# Altium footprint library WS2812B.PcbLib: 1 footprints
Each footprint in its own frame and in the unit in brackets; x right, y up, seen from the top. Pads: shape width x height; smd on the part's side, far side on the other; paste and mask are expansions set on the pad; w line width, h text height; cw(c..) or ccw(c..) is an arc to the next point about the centre after c.
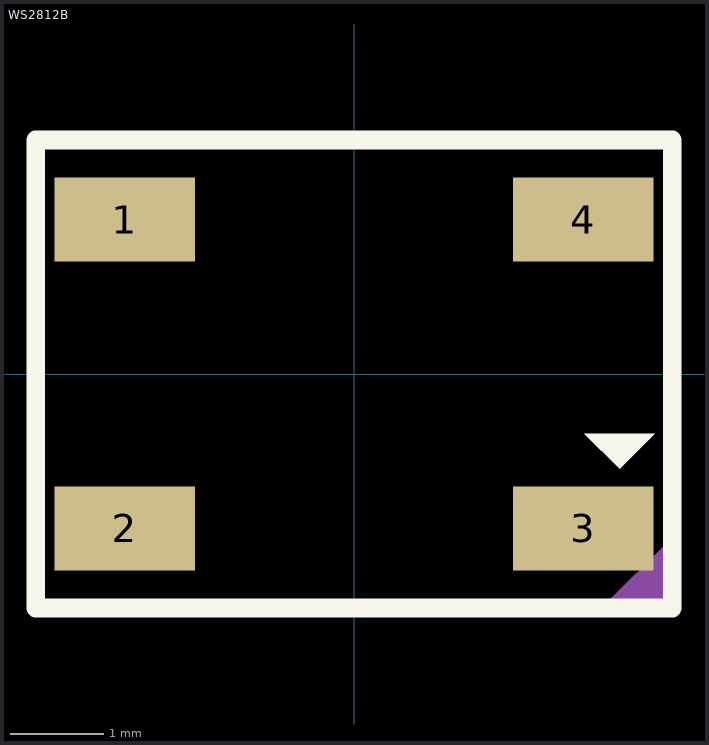
[diagram p0: the footprint, top view; thin cyan lines are the x and y axes]

## WS2812B [mm]
pads (4):
  rect 1.5x0.9 smd: 1(-2.45,1.65) 2(-2.45,-1.65) 3(2.45,-1.65) 4(2.45,1.65)
Top Overlay:
  region: 3.213,-0.637 2.463,-0.637 2.463,-0.638 2.838,-1.012
  lines w0.2: -3.4,-2.5 3.4,-2.5 3.4,2.5 -3.4,2.5 -3.4,-2.5
Top Assembly:
  region: 3.4,-1.75 3.4,-2.5 2.65,-2.5
  lines w0.1: -3.4,-2.5 3.4,-2.5 3.4,2.5 -3.4,2.5 -3.4,-2.5
  text "'.Designator'" at -0.925,-0.35 h0.7
3D body "User Library-ws2812B-1.step": height 1.55, standoff -0.02, extent -2.7,-2.5 2.7,2.5